# Altium footprint library PCB_PassiveRes.PcbLib: 5 footprints
Each footprint in its own frame and in the unit in brackets; x right, y up, seen from the top. Pads: shape width x height; smd on the part's side, far side on the other; paste and mask are expansions set on the pad; w line width, h text height; cw(c..) or ccw(c..) is an arc to the next point about the centre after c.
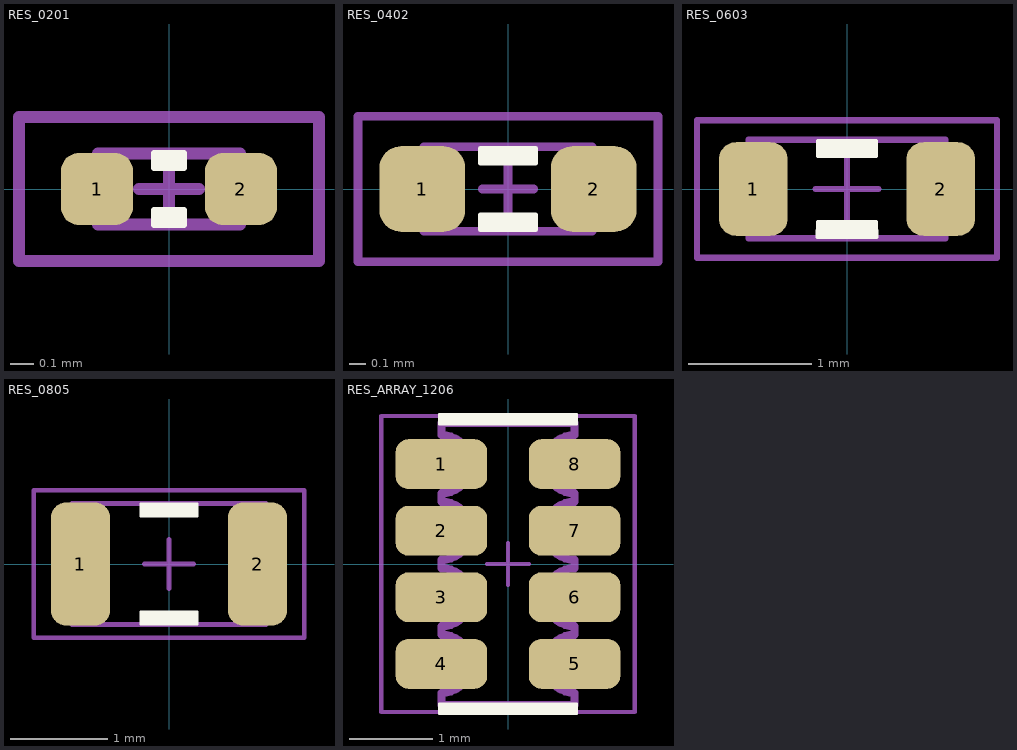
[diagram p0: the footprints below, top view; thin cyan lines are the x and y axes]

## RES_0201 [mil]
height 9.06
pads (2):
  rrect50% 12x12 smd: 1(-12,0) 2(12,0)
Top Overlay:
  region: 2.5,-6 -2.5,-6 -2.5,-3.5 2.5,-3.5
  region: -2.5,6 2.5,6 2.5,3.5 -2.5,3.5
  lines w1: -2.5,-6 2.5,-6 2.5,-3.5 -2.5,-3.5 -2.5,-6 ; -2.5,3.5 -2.5,6 2.5,6 2.5,3.5 -2.5,3.5
Mechanical 13:
  lines w2: -5,0 5,0 ; 0,-5 0,5 ; -11.81,-5.91 11.81,-5.91 11.81,5.91 -11.81,5.91 -11.81,-5.91
Mechanical 14:
  lines w2: -25,-12 25,-12 25,12 -25,12 -25,-12
  text ".Designator" at -20,-7.5 h15
3D body "RESC0603X02L.step": height 9.06, standoff 0, extent -11.81,-5.9 11.81,5.91

## RES_0402 [mil]
height 13.78
pads (2):
  rrect50% 20x20 smd: 1(-20,0) 2(20,0)
Top Overlay:
  region: 6.5,-9.5 -6.5,-9.5 -6.5,-6 6.5,-6
  region: -6.5,9.5 6.5,9.5 6.5,6 -6.5,6
  lines w1: -6.5,-9.5 6.5,-9.5 6.5,-6 -6.5,-6 -6.5,-9.5 ; -6.5,6 -6.5,9.5 6.5,9.5 6.5,6 -6.5,6
Mechanical 13:
  lines w2: -6,0 6,0 ; 0,-6 0,6 ; -19.69,-9.84 -19.69,9.84 19.68,9.84 19.68,-9.84 -19.69,-9.84
Mechanical 14:
  lines w2: -35,-17 35,-17 35,17 -35,17 -35,-17
  text ".Designator" at -25,-10 h20
3D body "RESC1005X03L.step": height 13.78, standoff 0, extent -19.68,-9.84 19.69,9.85

## RES_0603 [mil]
height 17.72
pads (2):
  rrect50% 22x30 smd: 1(-30,0) 2(30,0)
Top Overlay:
  region: 9.5,-15.5 -9.5,-15.5 -9.5,-10.5 9.5,-10.5
  region: -9.5,15.5 9.5,15.5 9.5,10.5 -9.5,10.5
  lines w1: -9.5,-15.5 -9.5,-10.5 9.5,-10.5 9.5,-15.5 -9.5,-15.5 ; -9.5,10.5 9.5,10.5 9.5,15.5 -9.5,15.5 -9.5,10.5
Mechanical 13:
  lines w2: -10,0 10,0 ; 0,-10 0,10 ; -31.5,-15.75 31.5,-15.75 31.5,15.75 -31.5,15.75 -31.5,-15.75
Mechanical 14:
  lines w2: -48,-22 -48,22 48,22 48,-22 -48,-22
  text ".Designator" at -35,-15 h30
3D body "RESC1608X05L.step": height 17.72, standoff 0, extent -31.49,-15.74 31.5,15.75

## RES_0805 [mil]
height 23.62
pads (2):
  rrect50% 24x50 smd: 1(-36,0) 2(36,0)
Top Overlay:
  region: 11.5,-24.5 -11.5,-24.5 -11.5,-19.5 11.5,-19.5
  region: -11.5,24.5 11.5,24.5 11.5,19.5 -11.5,19.5
  lines w1: -11.5,-24.5 11.5,-24.5 11.5,-19.5 -11.5,-19.5 -11.5,-24.5 ; -11.5,19.5 -11.5,24.5 11.5,24.5 11.5,19.5 -11.5,19.5
Mechanical 13:
  lines w2: -10,0 10,0 ; 0,-10 0,10 ; -39.37,-24.61 39.37,-24.61 39.37,24.61 -39.37,24.61 -39.37,-24.61
Mechanical 14:
  lines w2: -55,-30 -55,30 55,30 55,-30 -55,-30
  text ".Designator" at -45,-20 h35
3D body "RESC2012X06L.step": height 23.62, standoff 0, extent -39.37,-24.6 39.37,24.61

## RES_ARRAY_1206 [mm] "0603x4"
height 0.7
pads (8):
  rrect50% 1.1x0.6 smd: 1(-0.8,1.2) 2(-0.8,0.4) 3(-0.8,-0.4) 4(-0.8,-1.2) 5(0.8,-1.2) 6(0.8,-0.4) 7(0.8,0.4) 8(0.8,1.2)
Top Overlay:
  region: -0.832,1.803 0.832,1.803 0.832,1.676 -0.832,1.676
  region: 0.832,-1.803 -0.832,-1.803 -0.832,-1.676 0.832,-1.676
  lines w0.025: -0.832,-1.803 -0.832,-1.676 0.832,-1.676 0.832,-1.803 -0.832,-1.803 ; -0.832,1.676 -0.832,1.803 0.832,1.803 0.832,1.676 -0.832,1.676
Mechanical 13:
  lines w0.051: -0.254,0 0.254,0 ; 0,-0.254 0,0.254
  lines w0.1: -0.8,-1.7 -0.8,-1.55 ccw(c-0.8,-1.2) -0.8,-0.85 -0.8,-0.75 ccw(c-0.8,-0.4) -0.8,-0.05 -0.8,0.05 ccw(c-0.8,0.4) -0.8,0.75 -0.8,0.85 ccw(c-0.8,1.2) -0.8,1.55 -0.8,1.7 0.8,1.7 0.8,1.55 ccw(c0.8,1.2) 0.8,0.85 0.8,0.75 ccw(c0.8,0.4) 0.8,0.05 0.8,-0.05 ccw(c0.8,-0.4) 0.8,-0.75 0.8,-0.85 ccw(c0.8,-1.2) 0.8,-1.55 0.8,-1.7 -0.8,-1.7
Mechanical 14:
  lines w0.051: -1.524,-1.778 -1.524,1.778 1.524,1.778 1.524,-1.778 -1.524,-1.778
  text ".Designator" at -1.067,-0.457 h0.89
3D body "RES_ARRAY_1206.step": height 0.7, standoff 0, extent -0.95,-1.7 0.95,1.7